# Altium footprint library TSOP_65P_L.PcbLib: 19 footprints (part 2 of 2)
Each footprint in its own frame and in the unit in brackets; x right, y up, seen from the top. Pads: shape width x height; smd on the part's side, far side on the other; paste and mask are expansions set on the pad; w line width, h text height; cw(c..) or ccw(c..) is an arc to the next point about the centre after c.
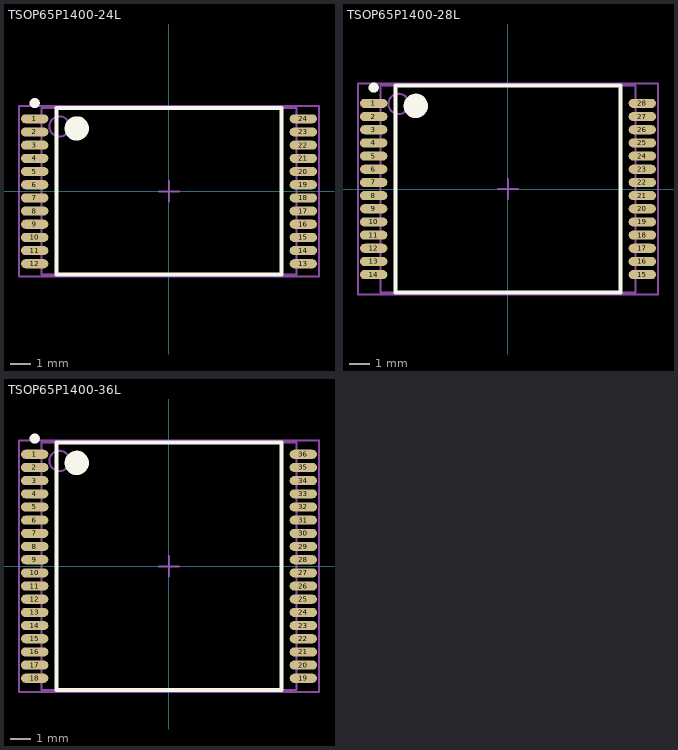
[diagram p1: the footprints below, top view; thin cyan lines are the x and y axes]

## TSOP65P1400-24L [mm] "TSOP, 24-Leads, Body 8.2x12.6mm, Pitch 0.65mm, IPC High Density"
height 1.27
pads (24):
  oval 1.35x0.45 smd: 1(-6.625,3.575) 2(-6.625,2.925) 3(-6.625,2.275) 4(-6.625,1.625) 5(-6.625,0.975) 6(-6.625,0.325) 7(-6.625,-0.325) 8(-6.625,-0.975) 9(-6.625,-1.625) 10(-6.625,-2.275) 11(-6.625,-2.925) 12(-6.625,-3.575) 13(6.625,-3.575) 14(6.625,-2.925) 15(6.625,-2.275) 16(6.625,-1.625) 17(6.625,-0.975) 18(6.625,-0.325) 19(6.625,0.325) 20(6.625,0.975) 21(6.625,1.625) 22(6.625,2.275) 23(6.625,2.925) 24(6.625,3.575)
Top Overlay:
  circle w0.25: c-6.625,4.35 r0.125
  circle w0.6: c-4.55,3.1 r0.3
  lines w0.2: -5.55,-4.1 -5.55,4.1 5.55,4.1 5.55,-4.1 -5.55,-4.1
Mechanical 13:
  circle w0.1: c-5.4,3.2 r0.5
  lines w0.1: -6.3,-4.1 -6.3,4.1 6.3,4.1 6.3,-4.1 -6.3,-4.1
Mechanical 15:
  lines w0.1: -0.5,0 0.5,0 ; 0,-0.5 0,0.5 ; -7.4,-4.2 -7.4,4.2 7.4,4.2 7.4,-4.2 -7.4,-4.2
3D body: height 1.27, standoff 0, extent -6.3,-4.1 6.3,4.1

## TSOP65P1400-28L [mm] "TSOP, 28-Leads, Body 10.2x12.6mm, Pitch 0.65mm, IPC High Density"
height 1.27
pads (28):
  oval 1.35x0.45 smd: 1(-6.625,4.225) 2(-6.625,3.575) 3(-6.625,2.925) 4(-6.625,2.275) 5(-6.625,1.625) 6(-6.625,0.975) 7(-6.625,0.325) 8(-6.625,-0.325) 9(-6.625,-0.975) 10(-6.625,-1.625) 11(-6.625,-2.275) 12(-6.625,-2.925) 13(-6.625,-3.575) 14(-6.625,-4.225) 15(6.625,-4.225) 16(6.625,-3.575) 17(6.625,-2.925) 18(6.625,-2.275) 19(6.625,-1.625) 20(6.625,-0.975) 21(6.625,-0.325) 22(6.625,0.325) 23(6.625,0.975) 24(6.625,1.625) 25(6.625,2.275) 26(6.625,2.925) 27(6.625,3.575) 28(6.625,4.225)
Top Overlay:
  circle w0.25: c-6.625,5 r0.125
  circle w0.6: c-4.55,4.1 r0.3
  lines w0.2: -5.55,-5.1 -5.55,5.1 5.55,5.1 5.55,-5.1 -5.55,-5.1
Mechanical 13:
  circle w0.1: c-5.4,4.2 r0.5
  lines w0.1: -6.3,-5.1 -6.3,5.1 6.3,5.1 6.3,-5.1 -6.3,-5.1
Mechanical 15:
  lines w0.1: -0.5,0 0.5,0 ; 0,-0.5 0,0.5 ; -7.4,-5.2 -7.4,5.2 7.4,5.2 7.4,-5.2 -7.4,-5.2
3D body: height 1.27, standoff 0, extent -6.3,-5.1 6.3,5.1

## TSOP65P1400-36L [mm] "TSOP, 36-Leads, Body 12.2x12.6mm, Pitch 0.65mm, IPC High Density"
height 1.27
pads (36):
  oval 1.35x0.45 smd: 1(-6.625,5.525) 2(-6.625,4.875) 3(-6.625,4.225) 4(-6.625,3.575) 5(-6.625,2.925) 6(-6.625,2.275) 7(-6.625,1.625) 8(-6.625,0.975) 9(-6.625,0.325) 10(-6.625,-0.325) 11(-6.625,-0.975) 12(-6.625,-1.625) 13(-6.625,-2.275) 14(-6.625,-2.925) 15(-6.625,-3.575) 16(-6.625,-4.225) 17(-6.625,-4.875) 18(-6.625,-5.525) 19(6.625,-5.525) 20(6.625,-4.875) 21(6.625,-4.225) 22(6.625,-3.575) 23(6.625,-2.925) 24(6.625,-2.275) 25(6.625,-1.625) 26(6.625,-0.975) 27(6.625,-0.325) 28(6.625,0.325) 29(6.625,0.975) 30(6.625,1.625) 31(6.625,2.275) 32(6.625,2.925) 33(6.625,3.575) 34(6.625,4.225) 35(6.625,4.875) 36(6.625,5.525)
Top Overlay:
  circle w0.25: c-6.625,6.3 r0.125
  circle w0.6: c-4.55,5.1 r0.3
  lines w0.2: -5.55,-6.1 -5.55,6.1 5.55,6.1 5.55,-6.1 -5.55,-6.1
Mechanical 13:
  circle w0.1: c-5.4,5.2 r0.5
  lines w0.1: -6.3,-6.1 -6.3,6.1 6.3,6.1 6.3,-6.1 -6.3,-6.1
Mechanical 15:
  lines w0.1: -0.5,0 0.5,0 ; 0,-0.5 0,0.5 ; -7.4,-6.2 -7.4,6.2 7.4,6.2 7.4,-6.2 -7.4,-6.2
3D body: height 1.27, standoff 0, extent -6.3,-6.1 6.3,6.1